# Altium schematic symbol library LTC7000.SchLib: 1 symbol
Pins are listed as number, name and electrical type; pins without a type are passive.

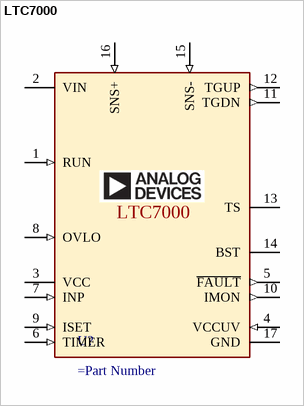
[diagram p0: symbol LTC7000]

## LTC7000
designator U?
=Description
pins: 1 RUN (in), 2 VIN (power), 3 VCC (power), 4 VCCUV (in), 5 ~{FAULT} (out), 6 TIMER (in), 7 INP (in), 8 OVLO (in), 9 ISET (in), 10 IMON (out), 11 TGDN (out), 12 TGUP (out), 13 TS, 14 BST, 15 SNS- (in), 16 SNS+ (in), 17 GND (power)